# Altium schematic symbol library MCP4921.SchLib: 1 symbol
Pins are listed as number, name and electrical type; pins without a type are passive.

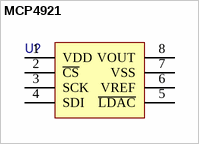
[diagram p0: symbol MCP4921]

## MCP4921
designator U?  (value not drawn)
pins: 1 VDD, 2 ~{CS}, 3 SCK, 4 SDI, 5 ~{LDAC}, 6 VREF, 7 VSS, 8 VOUT
1 alternate drawing of the same symbol